# Altium schematic symbol library BATTERY_HOLDER_3xAA_3xR6.Schlib: 1 symbol
Pins are listed as number, name and electrical type; pins without a type are passive.

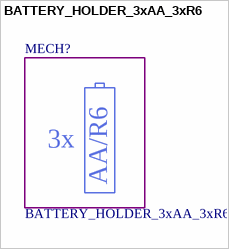
[diagram p0: symbol BATTERY_HOLDER_3xAA_3xR6]

## BATTERY_HOLDER_3xAA_3xR6
designator MECH?
Battery holder 3xAA
text: 3x; AA/R6